# EAGLE library part TESEO-LIV4FTR (library TESEO-LIV4FTR)
Tiny dual-band GNSS low power and measurement engine modules Source: Datasheet <https://www.st.com/resource/en/datasheet/teseo-liv4f.pdf>
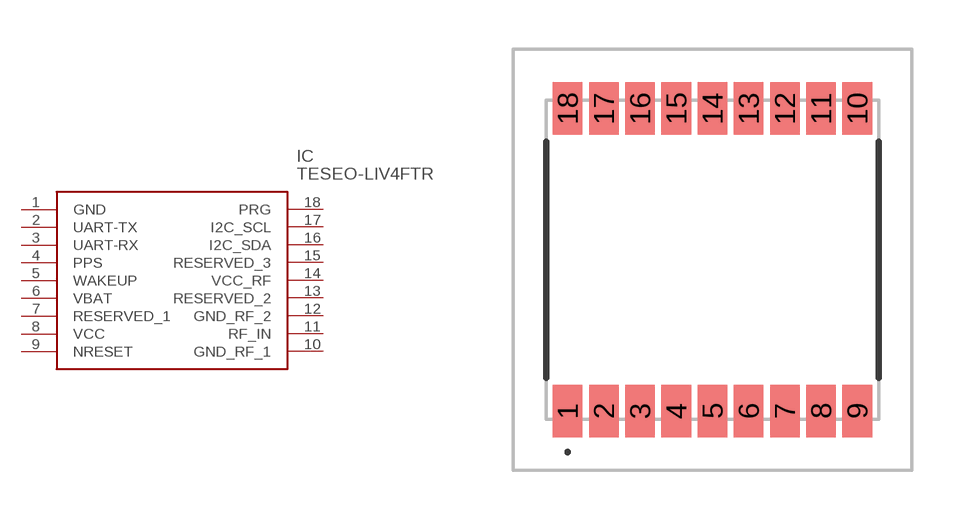
[diagram p0: symbol with the pads of TESEOLIV4FTR; footprint TESEOLIV4FTR]

Designator prefix IC

## TESEO-LIV4FTR (Arrow_Part_Number: TESEO-LIV4FTR; Arrow_Price-Stock: https://www.arrow.com/en/products/teseo-liv4ftr/stmicroelectronics?utm_currency=USD&region=nac; Description: Tiny dual-band GNSS low power and measurement engine modules; Height: 2.3mm; Manufacturer_Name: STMicroelectronics; Manufacturer_Part_Number: TESEO-LIV4FTR; Mouser_Part_Number: 511-TESEO-LIV4FTR; Mouser_Price-Stock: https://www.mouser.co.uk/ProductDetail/STMicroelectronics/TESEO-LIV4FTR?qs=By6Nw2ByBD3%252BjjBvGBu5LQ%3D%3D)  [TESEOLIV4FTR]
1  GND
2  UART-TX
3  UART-RX
4  PPS
5  WAKEUP
6  VBAT
7  RESERVED_1
8  VCC
9  NRESET
10  GND_RF_1
11  RF_IN
12  GND_RF_2
13  RESERVED_2
14  VCC_RF
15  RESERVED_3
16  I2C_SDA
17  I2C_SCL
18  PRG

## Footprint TESEOLIV4FTR (pad centres in mm)
TESEO-LIV4FTR-1
smd 0.9 x 1.6: 1 -4.4,-4.6; 2 -3.3,-4.6; 3 -2.2,-4.6; 4 -1.1,-4.6; 5 0,-4.6; 6 1.1,-4.6; 7 2.2,-4.6; 8 3.3,-4.6; 9 4.4,-4.6; 10 4.4,4.6; 11 3.3,4.6; 12 2.2,4.6; 13 1.1,4.6; 14 0,4.6; 15 -1.1,4.6; 16 -2.2,4.6; 17 -3.3,4.6; 18 -4.4,4.6